# Altium schematic symbol library Valve.SchLib: 24 symbols
Pins are listed as number, name and electrical type; pins without a type are passive.

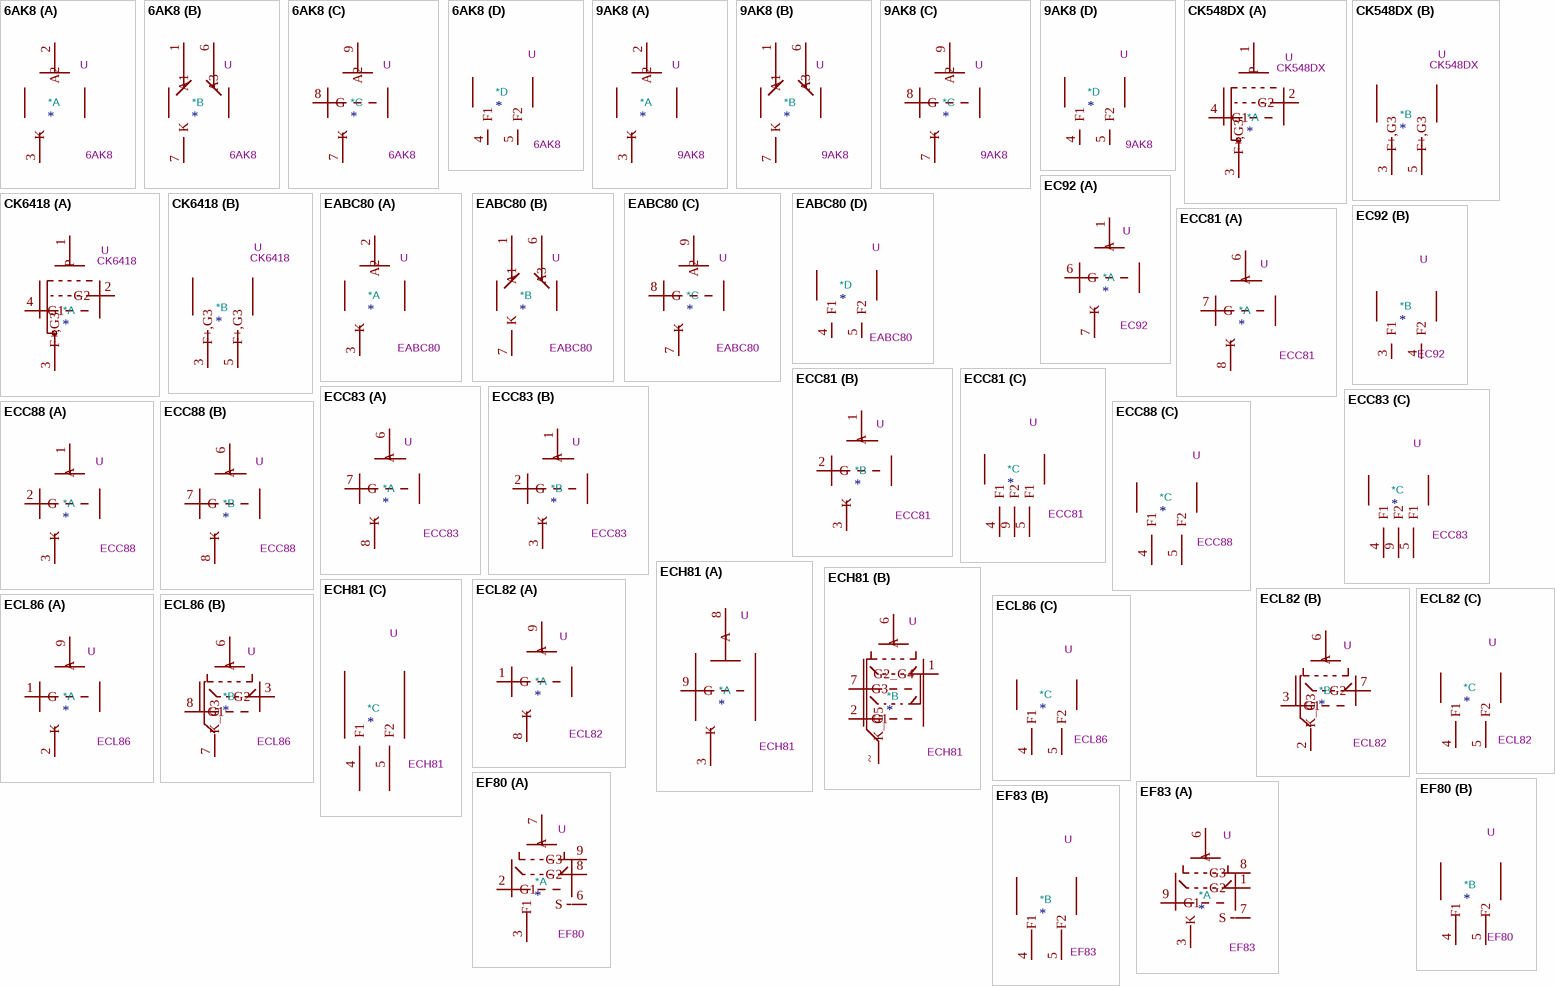
[diagram p0: symbols 6AK8 to EF83]

## 6AK8
designator *  value 6AK8  Reference: U
ki_keywords: diode triode valve; ki_description: triple diode triode; ki_fp_filters: VALVE*NOVAL*P*; Footprint: Valve:Valve_Noval_P; Datasheet: https://frank.pocnet.net/sheets/082/e/EABC80.pdf
part A pins: 2 A2, 3 K
part B pins: 1 A1, 6 A3, 7 K
part C pins: 7 K, 8 G, 9 A2
part D pins: 4 F1, 5 F2

## 9AK8
designator *  value 9AK8  Reference: U
ki_keywords: diode triode valve; ki_description: triple diode triode; ki_fp_filters: VALVE*NOVAL*P*; Footprint: Valve:Valve_Noval_P; Datasheet: https://frank.pocnet.net/sheets/082/e/EABC80.pdf
part A pins: 2 A2, 3 K
part B pins: 1 A1, 6 A3, 7 K
part C pins: 7 K, 8 G, 9 A2
part D pins: 4 F1, 5 F2

## CK548DX
designator *  value CK548DX  Reference: U
ki_keywords: subminiature pentode valve; ki_description: Subminiature Pentode; ki_fp_filters: VALVE*MINI*PENTODE*LINEAR*; Footprint: Valve:Valve_Mini_Pentode_Linear
part A pins: 1 P, 2 G2, 3 F+,G3, 4 G1
part B pins: 3 F+,G3, 5 F+,G3

## CK6418
designator *  value CK6418  Reference: U
ki_keywords: subminiature pentode valve; ki_description: Subminiature Pentode; ki_fp_filters: VALVE*MINI*PENTODE*LINEAR*; Footprint: Valve:Valve_Mini_Pentode_Linear; Datasheet: https://frank.pocnet.net/sheets/127/6/6418.pdf
part A pins: 1 P, 2 G2, 3 F+,G3, 4 G1
part B pins: 3 F+,G3, 5 F+,G3

## EABC80
designator *  value EABC80  Reference: U
ki_keywords: diode triode valve; ki_description: triple diode triode; ki_fp_filters: VALVE*NOVAL*P*; Footprint: Valve:Valve_Noval_P; Datasheet: https://frank.pocnet.net/sheets/082/e/EABC80.pdf
part A pins: 2 A2, 3 K
part B pins: 1 A1, 6 A3, 7 K
part C pins: 7 K, 8 G, 9 A2
part D pins: 4 F1, 5 F2

## EC92
designator *  value EC92  Reference: U
ki_keywords: triode valve; ki_description: single triode; ki_fp_filters: VALVE*MINI*P*; Footprint: Valve:Valve_Mini_P; Datasheet: http://www.r-type.org/pdfs/ec92.pdf
part A pins: 1 A, 6 G, 7 K
part B pins: 3 F1, 4 F2

## ECC81
designator *  value ECC81  Reference: U
ki_keywords: triode valve; ki_description: double triode; ki_fp_filters: VALVE*NOVAL*P*; Footprint: Valve:Valve_Noval_P; Datasheet: http://www.r-type.org/pdfs/ecc81.pdf
part A pins: 6 A, 7 G, 8 K
part B pins: 1 A, 2 G, 3 K
part C pins: 4 F1, 5 F1, 9 F2

## ECC83
designator *  value ECC83  Reference: U
ki_keywords: triode valve; ki_description: double triode; ki_fp_filters: VALVE*NOVAL*P*; Footprint: Valve:Valve_Noval_P; Datasheet: http://www.r-type.org/pdfs/ecc83.pdf
part A pins: 6 A, 7 G, 8 K
part B pins: 1 A, 2 G, 3 K
part C pins: 4 F1, 5 F1, 9 F2

## ECC88
designator *  value ECC88  Reference: U
ki_keywords: triode valve; ki_description: double triode, low-noise; ki_fp_filters: VALVE*NOVAL*P*; Footprint: Valve:Valve_Noval_P; Datasheet: http://www.r-type.org/pdfs/ecc88.pdf
part A pins: 1 A, 2 G, 3 K
part B pins: 6 A, 7 G, 8 K
part C pins: 4 F1, 5 F2

## ECH81
designator *  value ECH81  Reference: U
ki_keywords: triode heptode valve; ki_description: triode heptode; ki_fp_filters: VALVE*NOVAL*P*; Footprint: Valve:Valve_Noval_P; Datasheet: http://www.r-type.org/pdfs/ech81.pdf
part A pins: 3 K, 8 A, 9 G
part B pins: 1 G2_G4, 2 G1, 6 A, 7 G3, ~ K_G5
part C pins: 4 F1, 5 F2

## ECL82
designator *  value ECL82  Reference: U
ki_keywords: triode pentode valve; ki_description: triode pentode; ki_fp_filters: Valve*Noval*P*; Footprint: Valve:Valve_Noval_P; Datasheet: http://www.r-type.org/pdfs/ecl82.pdf
part A pins: 1 G, 8 K, 9 A
part B pins: 2 K_G3, 3 G1, 6 A, 7 G2
part C pins: 4 F1, 5 F2

## ECL86
designator *  value ECL86  Reference: U
ki_keywords: triode pentode valve; ki_description: triode pentode; ki_fp_filters: Valve*Noval*P*; Footprint: Valve:Valve_Noval_P; Datasheet: http://www.r-type.org/pdfs/ecl86.pdf
part A pins: 1 G, 2 K, 9 A
part B pins: 3 G2, 6 A, 7 K_G3, 8 G1
part C pins: 4 F1, 5 F2

## EF80
designator *  value EF80  Reference: U
ki_keywords: pentode valve; ki_description: pentode; ki_fp_filters: VALVE*NOVAL*P*; Footprint: Valve:Valve_Noval_P; Datasheet: http://www.r-type.org/pdfs/ef80.pdf
part A pins: 2 G1, 3 F1, 6 S, 7 A, 8 G2, 9 G3
part B pins: 4 F1, 5 F2

## EF83
designator *  value EF83  Reference: U
ki_keywords: pentode valve; ki_description: pentode; ki_fp_filters: VALVE*NOVAL*P*; Footprint: Valve:Valve_Noval_P; Datasheet: http://www.r-type.org/pdfs/ef83.pdf
part A pins: 1 G2, 3 K, 6 A, 7 S, 8 G3, 9 G1
part B pins: 4 F1, 5 F2

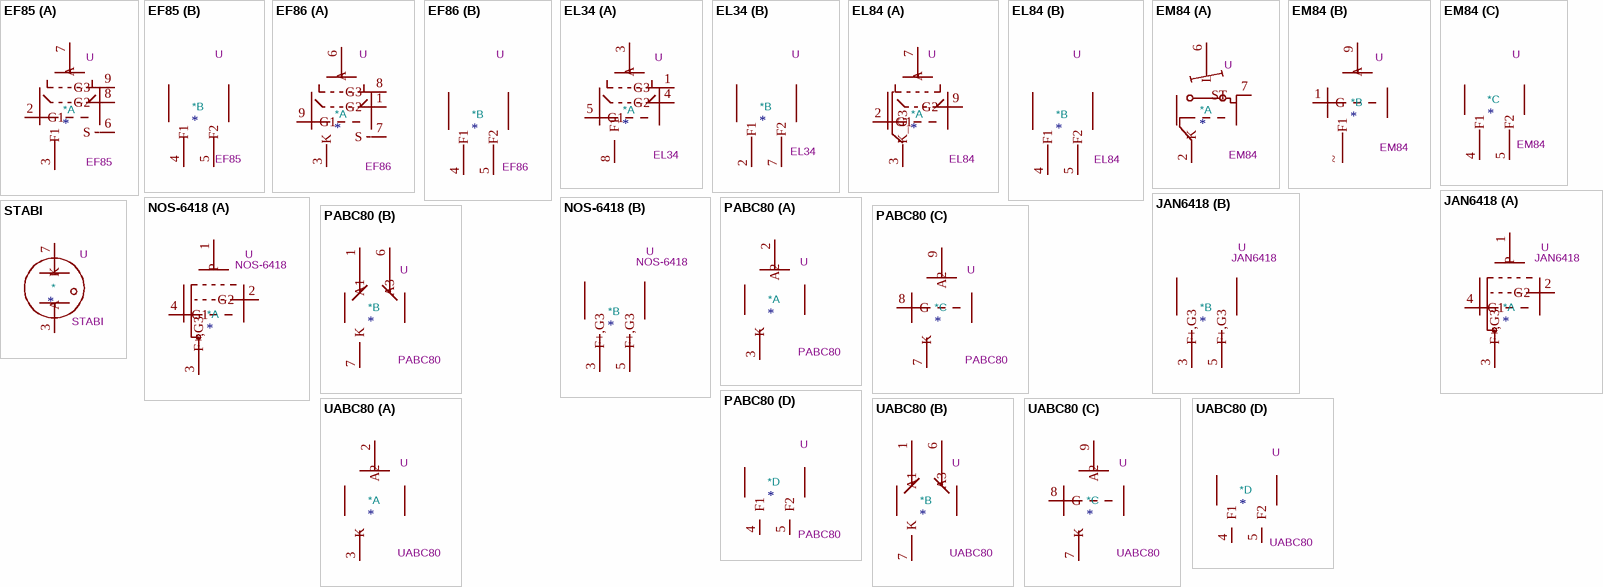
[diagram p1: symbols EF85 to UABC80]

## EF85
designator *  value EF85  Reference: U
ki_keywords: pentode valve; ki_description: pentode; ki_fp_filters: VALVE*NOVAL*P*; Footprint: Valve:Valve_Noval_P
part A pins: 2 G1, 3 F1, 6 S, 7 A, 8 G2, 9 G3
part B pins: 4 F1, 5 F2

## EF86
designator *  value EF86  Reference: U
ki_keywords: pentode valve; ki_description: pentode; ki_fp_filters: VALVE*NOVAL*P*; Footprint: Valve:Valve_Noval_P
part A pins: 1 G2, 3 K, 6 A, 7 S, 8 G3, 9 G1
part B pins: 4 F1, 5 F2

## EL34
designator *  value EL34  Reference: U
ki_keywords: pentode valve; ki_description: pentode, 25W; ki_fp_filters: VALVE*OCTAL*; Footprint: Valve:Valve_Octal; Datasheet: http://www.r-type.org/pdfs/el34.pdf
part A pins: 1 G3, 3 A, 4 G2, 5 G1, 8 F1
part B pins: 2 F1, 7 F2

## EL84
designator *  value EL84  Reference: U
ki_keywords: pentode valve; ki_description: pentode, 12W; ki_fp_filters: VALVE*NOVAL*P*; Footprint: Valve:Valve_Noval_P; Datasheet: http://www.r-type.org/pdfs/el84.pdf
part A pins: 2 G1, 3 K_G3, 7 A, 9 G2
part B pins: 4 F1, 5 F2

## EM84
designator *  value EM84  Reference: U
ki_keywords: indicator tube valve magic eye; ki_description: indicator tube "magic eye"; ki_fp_filters: VALVE*NOVAL*P*; Footprint: Valve:Valve_Noval_P; Datasheet: http://www.r-type.org/pdfs/em84.pdf
part A pins: 2 K, 6 L, 7 ST
part B pins: 1 G, 9 A, ~ F1
part C pins: 4 F1, 5 F2

## JAN6418
designator *  value JAN6418  Reference: U
ki_keywords: subminiature pentode valve; ki_description: Subminiature Pentode; ki_fp_filters: VALVE*MINI*PENTODE*LINEAR*; Footprint: Valve:Valve_Mini_Pentode_Linear; Datasheet: https://frank.pocnet.net/sheets/127/6/6418.pdf
part A pins: 1 P, 2 G2, 3 F+,G3, 4 G1
part B pins: 3 F+,G3, 5 F+,G3

## NOS-6418
designator *  value NOS-6418  Reference: U
ki_keywords: subminiature pentode valve; ki_description: Subminiature Pentode; ki_fp_filters: VALVE*MINI*PENTODE*LINEAR*; Footprint: Valve:Valve_Mini_Pentode_Linear; Datasheet: https://frank.pocnet.net/sheets/127/6/6418.pdf
part A pins: 1 P, 2 G2, 3 F+,G3, 4 G1
part B pins: 3 F+,G3, 5 F+,G3

## PABC80
designator *  value PABC80  Reference: U
ki_keywords: diode triode valve; ki_description: triple diode triode; ki_fp_filters: VALVE*NOVAL*P*; Footprint: Valve:Valve_Noval_P; Datasheet: https://frank.pocnet.net/sheets/082/e/EABC80.pdf
part A pins: 2 A2, 3 K
part B pins: 1 A1, 6 A3, 7 K
part C pins: 7 K, 8 G, 9 A2
part D pins: 4 F1, 5 F2

## STABI
designator *  value STABI  Reference: U
ki_fp_filters: VALVE*GLIMM*; Footprint: Valve:Valve_Glimm
pins: 3 A, 7 K

## UABC80
designator *  value UABC80  Reference: U
ki_keywords: diode triode valve; ki_description: triple diode triode; ki_fp_filters: VALVE*NOVAL*P*; Footprint: Valve:Valve_Noval_P; Datasheet: https://frank.pocnet.net/sheets/082/e/EABC80.pdf
part A pins: 2 A2, 3 K
part B pins: 1 A1, 6 A3, 7 K
part C pins: 7 K, 8 G, 9 A2
part D pins: 4 F1, 5 F2